# Altium schematic symbol library GamePi.SCHLIB: 24 symbols
Pins are listed as number, name and electrical type; pins without a type are passive.

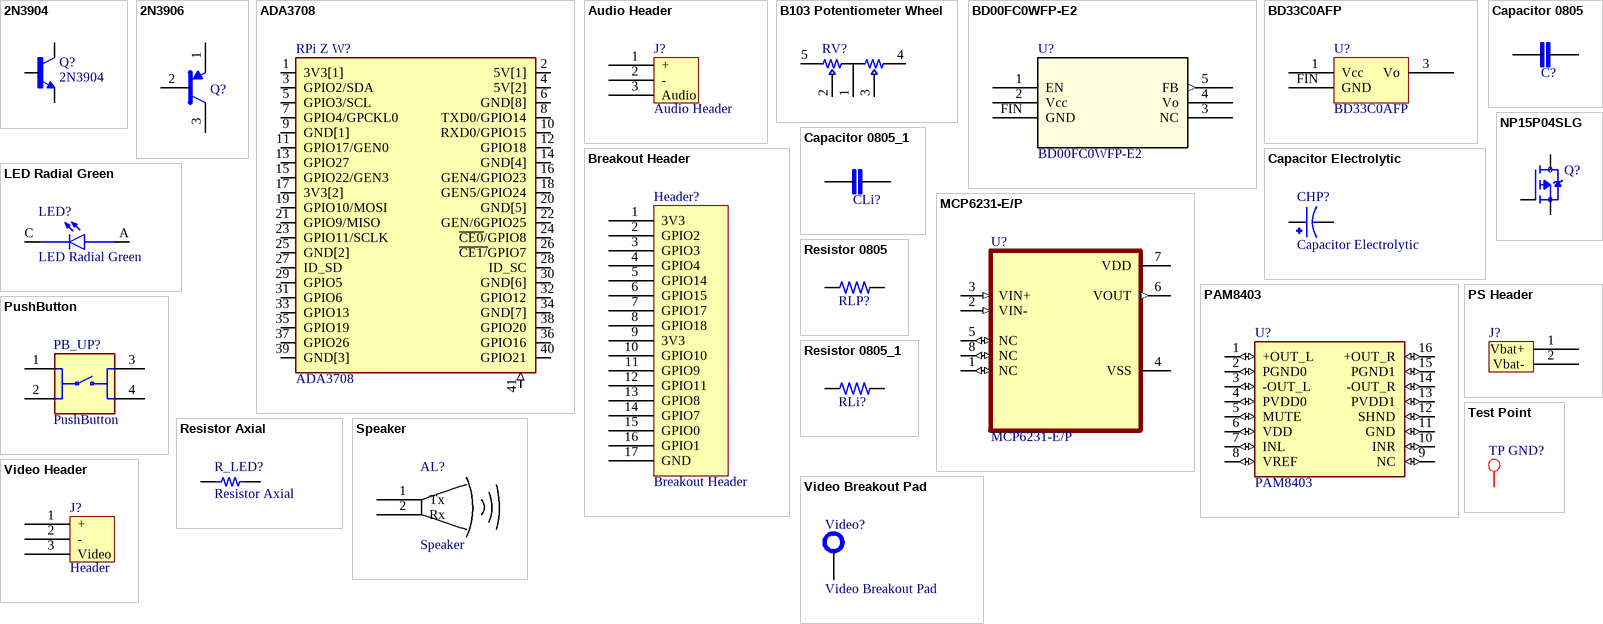
[diagram p0: symbols 2N3904 to Video Header]

## 2N3904
designator Q?
footprint 2N3904
pins: 1 E, 2 B, 3 C

## 2N3906
designator Q?  (value not drawn)
footprint 2N3904
pins: 1 E, 2 B, 3 C

## ADA3708
designator RPi Z W?
Raspberry Pi Zero WH (Zero W with Headers); MP: ADA3708; Availability: Unavailable; Package: None; Value: *; Price: None
footprint ADA3708_RPI-ZERO
pins: 1 3V3[1] (power), 2 5V[1] (power), 3 GPIO2/SDA (io), 4 5V[2] (power), 5 GPIO3/SCL (io), 6 GND[8] (power), 7 GPIO4/GPCKL0 (io), 8 TXD0/GPIO14 (io), 9 GND[1] (power), 10 RXD0/GPIO15 (io), 11 GPIO17/GEN0 (io), 12 GPIO18 (io), 13 GPIO27 (io), 14 GND[4] (power), 15 GPIO22/GEN3 (io), 16 GEN4/GPIO23 (io), 17 3V3[2] (power), 18 GEN5/GPIO24 (io), 19 GPIO10/MOSI (io), 20 GND[5] (power), 21 GPIO9/MISO (io), 22 GEN/6GPIO25 (io), 23 GPIO11/SCLK (io), 24 ~{CE0}/GPIO8 (io), 25 GND[2] (power), 26 ~{CE1/}GPIO7 (io), 27 ID_SD (io), 28 ID_SC (io), 29 GPIO5 (io), 30 GND[6] (power), 31 GPIO6 (io), 32 GPIO12 (io), 33 GPIO13 (io), 34 GND[7] (power), 35 GPIO19 (io), 36 GPIO16 (io), 37 GPIO26 (io), 38 GPIO20 (io), 39 GND[3] (power), 40 GPIO21 (io), 41 (in)

## Audio Header
designator J?
footprint Audio Header
pins: 1 +, 2 -, 3 Audio

## B103 Potentiometer Wheel
designator RV?  (value not drawn)
footprint B103 Pot Wheel
pins: 1, 2, 3, 4, 5

## BD00FC0WFP-E2
designator U?
footprint BD00FC0WFP-E2
pins: 1 EN (power), 2 Vcc, 3 NC (power), 4 Vo (power), 5 FB (out), FIN GND

## BD33C0AFP
designator U?
footprint BD33C0AFP
pins: 1 Vcc, 3 Vo, FIN GND

## Breakout Header
designator Header?
footprint Breakout Header
pins: 1 3V3, 2 GPIO2, 3 GPIO3, 4 GPIO4, 5 GPIO14, 6 GPIO15, 7 GPIO17, 8 GPIO18, 9 3V3, 10 GPIO10, 11 GPIO9, 12 GPIO11, 13 GPIO8, 14 GPIO7, 15 GPIO0, 16 GPIO1, 17 GND

## Capacitor 0805
designator C?, comment 0805  (value not drawn)
footprint Capacitor 0805
pins: 1, 2

## Capacitor 0805_1
designator CLi?, comment 0805  (value not drawn)
footprint Capacitor 0805
pins: 1, 2

## Capacitor Electrolytic
designator CHP?
footprint Capacitor Electrolytic
pins: N, P

## LED Radial Green
designator LED?
footprint LED Radial Green
pins: A, C

## MCP6231-E/P
designator U?
footprint MCP6231-E/P
pins: 1 NC (io), 2 VIN- (in), 3 VIN+ (in), 4 VSS (power), 5 NC (io), 6 VOUT (out), 7 VDD (power), 8 NC (io)

## NP15P04SLG
designator Q?  (value not drawn)
footprint NP15P04SLG
pins: 1 G, 3 S, 4 D

## PAM8403
designator U?
footprint PAM8403
pins: 1 +OUT_L (io), 2 PGND0 (io), 3 -OUT_L (io), 4 PVDD0 (io), 5 MUTE (io), 6 VDD (io), 7 INL (io), 8 VREF (io), 9 NC (io), 10 INR (io), 11 GND (io), 12 SHND (io), 13 PVDD1 (io), 14 -OUT_R (io), 15 PGND1 (io), 16 +OUT_R (io)

## PS Header
designator J?, comment J?  (value not drawn)
footprint PS Header
pins: 1 Vbat+ (power), 2 Vbat- (power)

## PushButton
designator PB_UP?
footprint Push Button
pins: 1, 2, 3, 4

## Resistor 0805
designator RLP?, comment 0805  (value not drawn)
footprint Resistor 0805
pins: 1, 2

## Resistor 0805_1
designator RLi?, comment 0805  (value not drawn)
footprint Resistor 0805
pins: 1, 2

## Resistor Axial
designator R_LED?
footprint Resistor Axial
pins: 1, 2

## Speaker
designator AL?
footprint Speaker
pins: 1 Tx, 2 Rx

## Test Point
designator TP GND?  (value not drawn)
footprint Test Point
pins: TP? Test Point

## Video Breakout Pad
designator Video?
footprint Video Breakout Pad
pins: 1

## Video Header
designator J?, comment Header
footprint Video Header
pins: 1 +, 2 -, 3 Video